# Altium footprint library CTAN.PcbLib: 1 footprints
Each footprint in its own frame and in the unit in brackets; x right, y up, seen from the top. Pads: shape width x height; smd on the part's side, far side on the other; paste and mask are expansions set on the pad; w line width, h text height; cw(c..) or ccw(c..) is an arc to the next point about the centre after c.
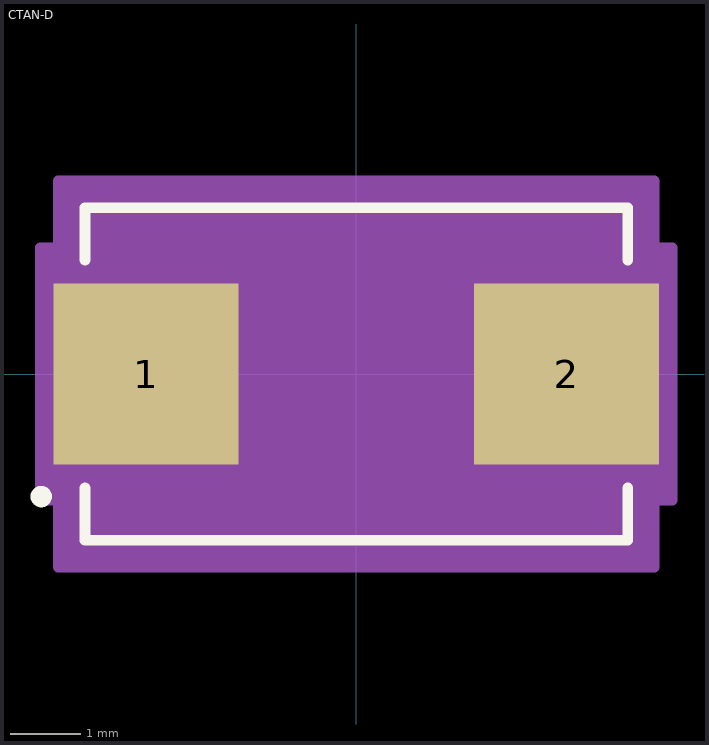
[diagram p0: the footprint, top view; thin cyan lines are the x and y axes]

## CTAN-D [mil]
pads (2):
  rect 104x102 smd: 1(-118.11,0) 2(118.11,0)
Top Overlay:
  circle w6: c-177.17,-68.9 r3
  lines w6: -152.5,-64.1 -152.5,-93.5 152.5,-93.5 152.5,-64.1 ; -152.5,64.1 -152.5,93.5 152.5,93.5 152.5,64.1
Mechanical 13:
  circle w0: c-137.5,0 r3
Mechanical 15:
  region: -167.5,-71 -177.5,-71 -177.5,71 -167.5,71 -167.5,108.5 167.5,108.5 167.5,71 177.5,71 177.5,-71 167.5,-71 167.5,-108.5 -167.5,-108.5
  lines w6: -177.5,-71 -167.5,-71 -167.5,-108.5 167.5,-108.5 167.5,-71 177.5,-71 177.5,71 167.5,71 167.5,108.5 -167.5,108.5 -167.5,71 -177.5,71 -177.5,-71
3D body "TAJD.stp": height 124, standoff 0, extent -147.5,-88.5 147.5,88.5